# EAGLE library part USB4800-03-A (library USB4800-03-A)
USB Connectors USB2.0 Type C Rcpt, SMT, Hrz, 3.5mm elevated, 16 Pin Source: Datasheet <https://gct.co/connector/usb4800>
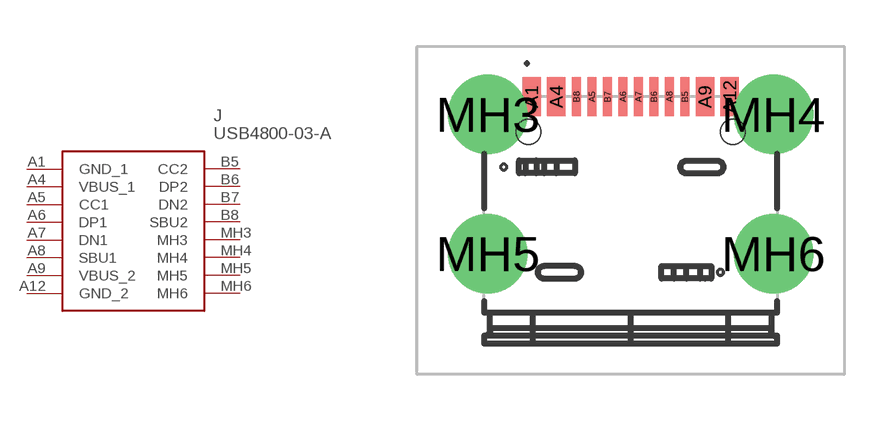
[diagram p0: symbol with the pads of USB480003A; footprint USB480003A]

Designator prefix J

## USB4800-03-A (Description: USB Connectors USB2.0 Type C Rcpt, SMT, Hrz, 3.5mm elevated, 16 Pin; Height: 5.58mm; Manufacturer_Name: GCT (GLOBAL CONNECTOR TECHNOLOGY); Manufacturer_Part_Number: USB4800-03-A; Mouser_Part_Number: 640-USB4800-03-A; Mouser_Price-Stock: https://www.mouser.co.uk/ProductDetail/GCT/USB4800-03-A?qs=vvQtp7zwQdMkfG8vViEZoQ%3D%3D)  [USB480003A]
A1  GND_1
A4  VBUS_1
A5  CC1
A6  DP1
A7  DN1
A8  SBU1
A9  VBUS_2
A12  GND_2
B5  CC2
B6  DP2
B7  DN2
B8  SBU2
MH3  MH3
MH4  MH4
MH5  MH5
MH6  MH6

## Footprint USB480003A (pad centres in mm)
USB4800-03-A-1
smd 0.6 x 1.25: A1 -3.2,3.675; A4 -2.4,3.675; A9 2.4,3.675; A12 3.2,3.675
smd 0.3 x 1.25: A5 -1.25,3.675; A6 -0.25,3.675; A7 0.25,3.675; A8 1.25,3.675; B5 1.75,3.675; B6 0.75,3.675; B7 -0.75,3.675; B8 -1.75,3.675
drill 1.71 pad 2: MH3 -4.61,3.1; MH4 4.61,3.1
drill 1.71 pad 2.565: MH5 -4.61,-1.4; MH6 4.61,-1.4
hole 0.8 at -3.3,2.54
hole 0.8 at 3.3,2.54